# Altium integrated library Captivate Library.IntLib: 22 symbols
Pins are listed as number, name and electrical type; pins without a type are passive.

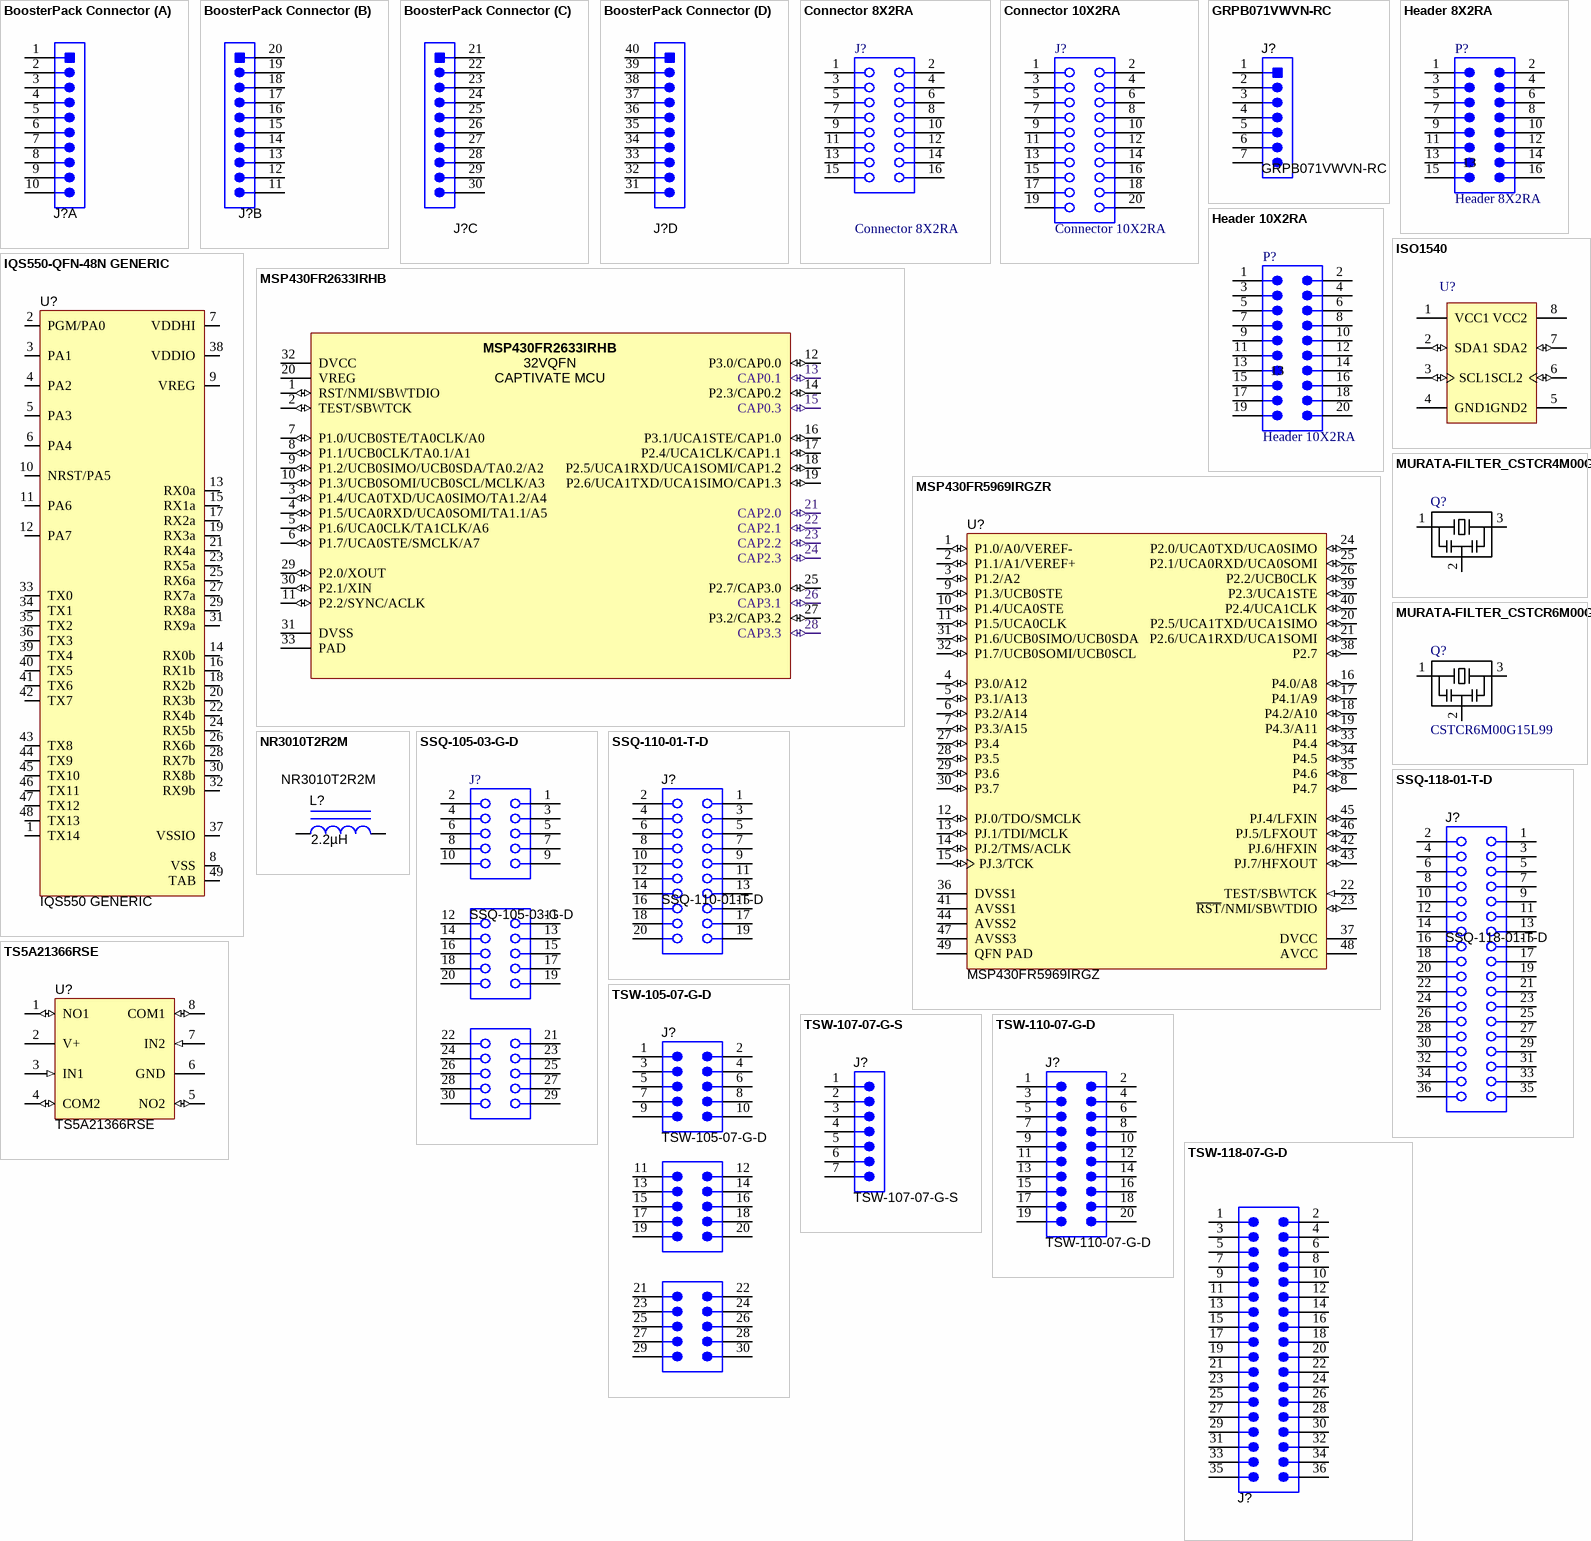
[diagram p0: symbols BoosterPack Connector to TSW-118-07-G-D]

## BoosterPack Connector
designator J?, comment TSW-110-07-G-S  (value not drawn)
Header, 100mil, 10x1, Gold, TH; Manufacturer: Samtec; SymbolCreator: a0412235; U/M: EA; SymbolVersion: 2013-12-22; PartNumber: TSW-110-07-G-S; PackageReference: 10x1 Header; ClassName: Header; CompType: Header; RoHS: Y; MountType: TH; ComponentLink1Description: Datasheet Link; ComponentLink1URL: http://samtec.com/ftppub/pdf/TSW_TH.PDF; Publisher: Texas Instruments; LatestRevisionDate: 2015-05-09; Supplier 1: Digi-Key; Supplier Part Number 1: SAM1029-10-ND
footprint LaunchPad Connector (Made from Samtec 100mil, 1x10, 230 mil above insulator)
footprint 40Pin BP (40Pin Booster Pack Connection (Top - male; Bottom - female))
part A pins: 1, 2, 3, 4, 5, 6, 7, 8, 9, 10
part B pins: 11, 12, 13, 14, 15, 16, 17, 18, 19, 20
part C pins: 21, 22, 23, 24, 25, 26, 27, 28, 29, 30
part D pins: 31, 32, 33, 34, 35, 36, 37, 38, 39, 40

## Connector 8X2RA
designator J?
Connector, Female, 8-Pin, 2 row, Right Angle; LatestRevisionDate: 17-Jul-2002; LatestRevisionNote: Re-released for DXP Platform.; Publisher: Altium Limited
footprint HDR2X8RA (Connector; Header; 8x2 Position; Right Angle)
signal-integrity model Connector
pins: 1, 2, 3, 4, 5, 6, 7, 8, 9, 10, 11, 12, 13, 14, 15, 16

## Connector 10X2RA
designator J?
Connector, Female, 10-Pin, 2 row, Right Angle; Manufacturer: Samtec; PartNumber: SSW-110-22-F-D-RA; Alternate PartNumber: SSW-110-02-F-D-RA; LatestRevisionDate: 17-Jul-2002; LatestRevisionNote: Re-released for DXP Platform.; Publisher: Altium Limited
footprint CONN2X10RA (Connector;F-Receptacle; 10x2 Position; Right Angle)
signal-integrity model Connector
pins: 1, 2, 3, 4, 5, 6, 7, 8, 9, 10, 11, 12, 13, 14, 15, 16, 17, 18, 19, 20

## GRPB071VWVN-RC
designator J?
Header, 50mil, 7x1, Gold,  TH; Manufacturer: Sullins Connector Solutions; U/M: EA; PartNumber: GRPB071VWVN-RC; PackageReference: Header, 7x1. TH; ClassName: Header; CompType: Header; RoHS: Y; MountType: TH; ComponentLink1Description: Datasheet Link; ComponentLink1URL: http://www.sullinscorp.com/drawings/71_GRPB___1VWVN-RC,_10957-C.pdf; Publisher: Texas Instruments; LatestRevisionDate: 2014-11-26; Supplier 1: Digikey; Supplier Part Number 1: S9014E-07-ND
footprint Sullins_GRPB071VWVN-RC (SULLINS)
pins: 1, 2, 3, 4, 5, 6, 7

## Header 8X2RA
designator P?
Header, Male, 8-Pin, 2 row, Shroud, Right Angle; LatestRevisionDate: 17-Jul-2002; LatestRevisionNote: Re-released for DXP Platform.; Publisher: Altium Limited
footprint HDR2X8RA (Connector; Header; 8x2 Position; Right Angle)
signal-integrity model Connector
pins: 1, 2, 3, 4, 5, 6, 7, 8, 9, 10, 11, 12, 13, 14, 15, 16

## Header 10X2RA
designator P?
Header, Male, 10-Pin, 2 row, Shround, Right Angle; Manufacturer: Samtec; PartNumber: TSSH-110-01-L-D-RA; LatestRevisionDate: 17-Jul-2002; LatestRevisionNote: Re-released for DXP Platform.; Publisher: Altium Limited; Supplier: Samtec
footprint HDR2X10RA (Connector; M-Header; 10x2 Position; Right Angle)
signal-integrity model Connector
pins: 1, 2, 3, 4, 5, 6, 7, 8, 9, 10, 11, 12, 13, 14, 15, 16, 17, 18, 19, 20

## IQS550-QFN-48N GENERIC
designator U?, comment IQS550 GENERIC
Manufacturer: Azoteq; Generated_By: GHM; Int_Part_Number: *; Manufacturer_PN: IQS550; Checked_By: *; Checked_Date: *; Generated_Date: 2012-04-18; HelpURL: \\Dentergems\pcbcad\Datasheets\Azoteq IC\Packaged\IQS550-V0.05.pdf; ComponentLink1Description: Footprint Detail; ComponentLink1URL: *; ComponentLink2Description: Application Note; ComponentLink2URL: *; ComponentLink3Description: Layout Guidelines; ComponentLink3URL: *; Wattage: *; Int_Note: *; Value: IQS550 GENERIC
footprint RGZ0048B_4.1mm Thermal Pad (QFN, 48-Leads, Body 7x7mm, Pitch 0.5mm, Thermal Pad 4.1x4.1mm, TI Recommended - Oliver Updated)
footprint U-QFN-P0.5-7X7-48 (IQS550 footprint from Azoteq)
pins: 1 TX14, 2 PGM/PA0, 3 PA1, 4 PA2, 5 PA3, 6 PA4, 7 VDDHI, 8 VSS, 9 VREG, 10 NRST/PA5, 11 PA6, 12 PA7, 13 RX0a, 14 RX0b, 15 RX1a, 16 RX1b, 17 RX2a, 18 RX2b, 19 RX3a, 20 RX3b, 21 RX4a, 22 RX4b, 23 RX5a, 24 RX5b, 25 RX6a, 26 RX6b, 27 RX7a, 28 RX7b, 29 RX8a, 30 RX8b, 31 RX9a, 32 RX9b, 33 TX0, 34 TX1, 35 TX2, 36 TX3, 37 VSSIO, 38 VDDIO, 39 TX4, 40 TX5, 41 TX6, 42 TX7, 43 TX8, 44 TX9, 45 TX10, 46 TX11, 47 TX12, 48 TX13, 49 TAB

## ISO1540
designator U?
I2C Bidirectional Isolator, 2 Channel Width, 3.0 to 12.0 V, -40 to 85 degC, 8-pin SOIC (D), Green (RoHS & no Sb/Br); PartNumber: ISO1540; Manufacturer: Texas Instruments; Alternate Manufacturer: None; Alternate PartNumber: Equivalent; VCC(Max)(V): 12; VCC(Min)(V): 3; Max Frequency(kHz): 400; Channel Width: 2; 5V Tolerant I/O: Yes; DatasheetVersion: SCPS145A; PackageVersion: revM, Jun-2011; PackageReference: D0008A; PackageDescription: 8-Pin Plastic Small Outline Integrated Circuit, 4.9 x 3.9 mm, Pitch 1.27 mm Pitch; Supplier 1: Digi-Key; Supplier Part Number 1: 296-34896-5-ND; Eco-Plan: Green (RoHS & no Sb/Br); SubFamily: I2C Bidirectional Isolator; Vcc range(V): 3.0 to 12.0; Master Side I2C Bus Capacitance Supported(pF): 400; Slave Side I2C Bus Capacitance Supported(pF): 400; Open Drain I/O Type: Yes; MountType: SMT; Code_JEDEC: MS-012AA; ComponentLink1Description: Datasheet; ComponentLink1URL: http://www.ti.com/general/docs/lit/getliterature.tsp?genericPartNumber=P82B715&fileType=pdf; ComponentLink2Description: URL Link1; ComponentLink2URL: SamplesURL:http://www.ti.com/product/iso1540#samples
footprint D0008A_L (SOIC, 8-Leads, Body 4.9x3.9mm, Pitch 1.27mm, IPC High Density)
footprint D0008A_M (SOIC, 8-Leads, Body 4.9x3.9mm, Pitch 1.27mm, IPC Low Density)
footprint D0008A_N (SOIC, 8-Leads, Body 4.9x3.9mm, Pitch 1.27mm, IPC Medium Density)
pins: 1 VCC1 (power) "Supply Voltage", 2 SDA1 (io) "Serial data bus or SDA. Connect to VCC of 12C master through a pullup resistor.", 3 SCL1 (io) "Serial clock bus or SCL. Connect to VCC of  12 C master through a pullup resistor.", 4 GND1 (power) "GROUND SIDE 1", 5 GND2 (power) "Ground", 6 SCL2 (io) "Buffered serial clock bus", 7 SDA2 (io), 8 VCC2 (power) "Supply Voltage"

## MSP430FR2633IRHB
designator U?
MSP430 Captivate Microcontroller; Manufacturer: Texas Instruments; SymbolCreator: W. Schnoor; CompType: IC; U/M: EA, IN, or GM; SymbolVersion: 10-1-2014; MountType: SMT; PartNumber: MSP430FR2633IRHB; PackageReference: RHB (32VQFN); ComponentLink1Description: Datasheet Link; Alternate PartNumber: -; Alternate Manufacturer: -
footprint RHB0032E_NV (QFN, 32-Leads, Body 5x5mm, Pitch 0.5mm, Thermal Pad 3.45x3.45mm, TI Recommended)
footprint RHB0032E (QFN, 32-Leads, Body 5x5mm, Pitch 0.5mm, Thermal Pad 3.45x3.45mm, TI Recommended)
pins: 1 RST/NMI/SBWTDIO (io), 2 TEST/SBWTCK (io), 3 P1.4/UCA0TXD/UCA0SIMO/TA1.2/A4 (io), 4 P1.5/UCA0RXD/UCA0SOMI/TA1.1/A5 (io), 5 P1.6/UCA0CLK/TA1CLK/A6 (io), 6 P1.7/UCA0STE/SMCLK/A7 (io), 7 P1.0/UCB0STE/TA0CLK/A0 (io), 8 P1.1/UCB0CLK/TA0.1/A1 (io), 9 P1.2/UCB0SIMO/UCB0SDA/TA0.2/A2 (io), 10 P1.3/UCB0SOMI/UCB0SCL/MCLK/A3 (io), 11 P2.2/SYNC/ACLK (io), 12 P3.0/CAP0.0 (io), 13 CAP0.1 (io), 14 P2.3/CAP0.2 (io), 15 CAP0.3 (io), 16 P3.1/UCA1STE/CAP1.0 (io), 17 P2.4/UCA1CLK/CAP1.1 (io), 18 P2.5/UCA1RXD/UCA1SOMI/CAP1.2 (io), 19 P2.6/UCA1TXD/UCA1SIMO/CAP1.3 (io), 20 VREG (power), 21 CAP2.0 (io), 22 CAP2.1 (io), 23 CAP2.2 (io), 24 CAP2.3 (io), 25 P2.7/CAP3.0 (io), 26 CAP3.1 (io), 27 P3.2/CAP3.2 (io), 28 CAP3.3 (io), 29 P2.0/XOUT (io), 30 P2.1/XIN (io), 31 DVSS (power), 32 DVCC (power), 33 PAD (power)
text: 32VQFN; CAPTIVATE MCU

## MSP430FR5969IRGZR
designator U?, comment MSP430FR5969IRGZ
25 MHz Mixed Signal Microcontroller with 32 KB Flash, 4096 B SRAM and 47 GPIOs, -40 to 85 degC, 48-pin QFN (RGC), Green (RoHS & no Sb/Br); Manufacturer: Texas Instruments; ADC: 10-bit SAR; ADC Channels: 8; Brown Out Reset: Yes; DMA: 3; Flash(KB): 32; Frequency(MHz): 25; GPIO: 47; Multiplier: 32x32; SRAM(B): 4096; SubFamily: 5 Series; Timers - 16-bit: 4; USB: 1; USCI_A (UART/LIN/IrDA/SPI): 2; DatasheetVersion: SLAS645G; PackageVersion: 4204101/F; PackageReference: RGZ0048A; PackageDescription: 48-Pin Plastic Flat Pack, Body 7 x 7 mm, Pitch 0.5 mm; Supplier 1: Digi-Key; Supplier 2: Digi-Key; Supplier 3: Digi-Key; Supplier 4: Newark; Supplier Part Number 4: 24T4628; Supplier 5: Mouser; Comparators: Yes; Eco-Plan: Green (RoHS & no Sb/Br); Real-Time Clock: Yes; SVS: Yes; Temp Sensor: Yes; USCI_B (I2C & SPI): 2; Watchdog: Yes; Mounting Technology: Surface Mount; Code_JEDEC: MO-220; PartNumber: MSP430FR5969IRGZ; ComponentLink1Description: Manufacturer URL; ComponentLink1URL: http://www.ti.com/; ComponentLink2Description: Datasheet; ComponentLink2URL: http://www.ti.com/general/docs/lit/getliterature.tsp?genericPartNumber=MSP430F5510&fileType=pdf; ComponentLink3Description: Package Specification; ComponentLink3URL: http://www.ti.com/lit/ml/mpqf123e/mpqf123e.pdf
footprint RGZ0048B_4.1mm Thermal Pad (QFN, 48-Leads, Body 7x7mm, Pitch 0.5mm, Thermal Pad 4.1x4.1mm, TI Recommended - Oliver Updated)
pins: 1 P1.0/A0/VEREF- (io), 2 P1.1/A1/VEREF+ (io), 3 P1.2/A2 (io), 4 P3.0/A12 (io), 5 P3.1/A13 (io), 6 P3.2/A14 (io), 7 P3.3/A15 (io) "Analog power supply", 8 P4.7 (io), 9 P1.3/UCB0STE (io), 10 P1.4/UCA0STE (io) "Analog ground supply", 11 P1.5/UCA0CLK (io) "Digital power supply", 12 PJ.0/TDO/SMCLK (io) "Digital ground supply", 13 PJ.1/TDI/MCLK (io) "Regulated core power supply output (internal use only, no external current loading)", 14 PJ.2/TMS/ACLK (io), 15 PJ.3/TCK (io), 16 P4.0/A8 (io), 17 P4.1/A9 (io), 18 P4.2/A10 (io), 19 P4.3/A11 (io), 20 P2.5/UCA1TXD/UCA1SIMO (io), 21 P2.6/UCA1RXD/UCA1SOMI (io), 22 TEST/SBWTCK (in), 23 ~{RST}/NMI/SBWTDIO (io), 24 P2.0/UCA0TXD/UCA0SIMO (io), 25 P2.1/UCA0RXD/UCA0SOMI (io), 26 P2.2/UCB0CLK (io), 27 P3.4 (io) "Digital ground supply", 28 P3.5 (io) "Digital power supply", 29 P3.6 (io), 30 P3.7 (io), 31 P1.6/UCB0SIMO/UCB0SDA (io), 32 P1.7/UCB0SOMI/UCB0SCL (io), 33 P4.4 (io), 34 P4.5 (io), 35 P4.6 (io), 36 DVSS1 (power), 37 DVCC (power) "USB PHY ground supply", 38 P2.7 (io), 39 P2.3/UCA1STE (io) "USB pullup resistor pin (open drain). The voltage level at the PUR pin is used to invoke the default USB BSL. Recommended 1-Mohm resistor to ground. See USB BSL for more information.", 40 P2.4/UCA1CLK (io), 41 AVSS1 (power) "USB LDO input (connect to USB power source)", 42 PJ.6/HFXIN (io) "USB LDO output", 43 PJ.7/HFXOUT (io) "USB regulated power (internal use only, no external current loading)", 44 AVSS2 (power) "Analog ground supply", 45 PJ.4/LFXIN (io), 46 PJ.5/LFXOUT (io), 47 AVSS3 (power), 48 AVCC (power), 49 QFN PAD (power) "Exposed QFN package pad. Connection to VSS recommended (not available on PT package devices)"

## MURATA-FILTER_CSTCR4M00G15
designator Q?
4.00MHz resonator; Supplier 1: Murata; Value Displayed: 4.00MHz; Supplier Part Number 1: CSTCR4M00G15L99
footprint CSTCR CERAMIC RESONATOR - MURATA (CSTCR-Resonator SMD footprint)
pins: 1, 2, 3

## MURATA-FILTER_CSTCR6M00G15
designator Q?, comment CSTCR6M00G15L99
6.00MHz resonator; Supplier 1: Murata; Supplier Part Number 1: CSTCR6M00G15L99; Value Displayed: 6.00MHz
footprint CSTCR CERAMIC RESONATOR - MURATA (CSTCR-Resonator SMD footprint)
pins: 1, 2, 3

## NR3010T2R2M
designator L?  ValueDisplayed: 2.2µH
Inductor, 2.2uH, 20%, 1.1A,, 0.095 ohm, SMD; Manufacturer: Taiyo Yuden; Ind_H: 2.2E-6; Imax_A: 2.2; Irms: 2.2A @ C rise; Isat: 3A @ % inductance drop; DCR_ohm: 0.042; Material: Powdered Iron; U/M: EA; SymbolVersion: 2008-07-23; CompType: Inductor; Value: 2.2uH; PartNumber: NR3010T2R2M; PackageReference: 3x3mm; Value1: 0.095 ohm; Value2: 1.1A; Technology: Shielded; MountType: SMT; Published: 2008-06-26; Publisher: Texas Instruments; LatestRevisionDate: 2013-09-06; ComponentLink1Description: Datasheet link; ComponentLink1URL: http://www.yuden.co.jp/productdata/catalog/en/wound04_e.pdf; RoHS: Y; Supplier 1: Digi-Key; Supplier Part Number 1: 587-1638-2-ND; Supplier 2: Mouser; Supplier 3: Farnell
signal-integrity model Inductor
simulation model Inductor
footprint INDUCTOR_2.2UH_SMD (Inductor, 2.2uH, 1A, 3x3mm, SMD footprint)
pins: 1, 2

## SSQ-105-03-G-D
designator J?
Connector-F, Receptacle, 100mil, 5x2 pos, LEGACY Sensor PCB; Manufacturer: Samtec; SymbolCreator: a0412235; U/M: EA; SymbolVersion: 2013-05-24; PartNumber: SSQ-105-03-G-D; CompType: Receptacle; RoHS: Y; PackageReference: SSQ-105-03-G-D; MountType: TH; ComponentLink1Description: Datasheet Link; ComponentLink1URL: http://www.samtec.com/documents/webfiles/pdf/SSQ_TH.PDF; Publisher: Texas Instruments; LatestRevisionDate: 2013-09-09; Supplier 1: Digi-Key
footprint 10PIN (3x) EDGE CONNECTOR (Male connector for use with legacy sensor PCBS)
pins: 1, 2, 3, 4, 5, 6, 7, 8, 9, 10, 11, 12, 13, 14, 15, 16, 17, 18, 19, 20, 21, 22, 23, 24, 25, 26, 27, 28, 29, 30

## SSQ-110-01-T-D
designator J?
Connector-F, Receptacle, 100mil, 10x2 pos, Use on EVM; Manufacturer: TE Connectivity; SymbolCreator: a0412235; U/M: EA; SymbolVersion: 2013-03-28; PartNumber: SSQ-110-01-T-D; CompType: Connector; RoHS: Y; PackageReference: Receptacle 10x2; MountType: TH; ComponentLink1Description: Datasheet Link; ComponentLink1URL: http://www.te.com/commerce/DocumentDelivery/DDEController?Action=srchrtrv&DocNm=534206&DocType=Customer+Drawing&DocLang=English; Publisher: Texas Instruments; LatestRevisionDate: 2013-09-09; Supplier 1: Digi-Key; Supplier Part Number 1: SAM1183-10-ND; Supplier 2: Mouser; Supplier 3: Newark
footprint 20PIN EDGE CONNECTOR (Foot print for 20 pin connector, 0.1inch centers, 0.1 inch tail length)
pins: 1, 2, 3, 4, 5, 6, 7, 8, 9, 10, 11, 12, 13, 14, 15, 16, 17, 18, 19, 20
1 alternate drawing of the same symbol

## SSQ-118-01-T-D
designator J?
Connector-F, Receptacle, 100mil, 18x2 pos, Use on EVM; Manufacturer: TE Connectivity; SymbolCreator: a0412235; U/M: EA; SymbolVersion: 2013-03-28; PartNumber: SSQ-118-01-T-D; CompType: Connector; RoHS: Y; PackageReference: Receptacle 18x2; MountType: TH; ComponentLink1Description: Datasheet Link; ComponentLink1URL: http://www.te.com/commerce/DocumentDelivery/DDEController?Action=srchrtrv&DocNm=534206&DocType=Customer+Drawing&DocLang=English; Publisher: Texas Instruments; LatestRevisionDate: 2013-09-09; Supplier 1: Digi-Key; Supplier Part Number 1: SAM1183-18-ND; Supplier 2: Mouser; Supplier 3: Newark
footprint 36PIN edge connector (Foot print for 36 pin connector, 0.1inch centers, 0.1 inch tail length)
pins: 1, 2, 3, 4, 5, 6, 7, 8, 9, 10, 11, 12, 13, 14, 15, 16, 17, 18, 19, 20, 21, 22, 23, 24, 25, 26, 27, 28, 29, 30, 31, 32, 33, 34, 35, 36
1 alternate drawing of the same symbol

## TS5A21366RSE
designator U?
0.75-Ω DUAL SPST ANALOG SWITCH WITH 1.8-V COMPATIBLE INPUT LOGIC, RSE0008A; Manufacturer: Texas Instruments; SymbolCreator: a0272918; CompType: IC; U/M: EA; SymbolVersion: 2014-12-09; PartNumber: TS5A21366RSE; PackageReference: RES008A; MountType: SMT; ComponentLink1Description: Datasheet Link; ComponentLink1URL: http://www.ti.com/lit/ds/symlink/ts5a21366.pdf; RoHS: Y; Publisher: Texas Instruments; LatestRevisionDate: 2014-12-08; Alternate Manufacturer: Texas Instruments
footprint RSE0008A (QFN, 8-Leads, Body 1.5x1.5mm, Pitch 0.5mm, TI Recommended)
pins: 1 NO1 (io), 2 V+ (power), 3 IN1 (in), 4 COM2 (io), 5 NO2 (io), 6 GND (power), 7 IN2 (in), 8 COM1 (io)

## TSW-105-07-G-D
designator J?
Header-M, (3) Union 5x2 pos, 100mil, LEGACY, Use on AZP401; Manufacturer: Samtec; SymbolCreator: a0412235; CompType: Header; U/M: EA; SymbolVersion: 2013-03-14; PartNumber: TSW-105-07-G-D; ClassName: Header; RoHS: Y; PackageReference: 5x2 Header; MountType: TH; ComponentLink1Description: Datasheet Link; ComponentLink1URL: http://samtec.com/ftppub/pdf/TSW_TH.PDF; Publisher: Texas Instruments; LatestRevisionDate: 2013-09-09; Supplier 1: Digi-Key; Supplier Part Number 1: SAM1028-05-ND
footprint 10PIN (3x) EDGE CONNECTOR - reverse (Male connector for use with legacy sensor PCBS)
pins: 1, 2, 3, 4, 5, 6, 7, 8, 9, 10, 11, 12, 13, 14, 15, 16, 17, 18, 19, 20, 21, 22, 23, 24, 25, 26, 27, 28, 29, 30

## TSW-107-07-G-S
designator J?
Header, TH, 100mil, 7x1, Gold plated, (modified silk pin #1); Manufacturer: Samtec; U/M: EA; PartNumber: TSW-107-07-G-S; ClassName: Header; CompType: Header; RoHS: Y; PackageReference: 7x1 Header; MountType: TH; ComponentLink1Description: Datasheet Link; ComponentLink1URL: http://samtec.com/ftppub/pdf/TSW_TH.PDF; Publisher: Texas Instruments; LatestRevisionDate: 2013-09-09; Supplier 1: Digi-Key; Supplier Part Number 1: SAM1029-07-ND
footprint TSW-107-07-G-S (Samtec 100mil, 1x7, 230 mil above insulator (modified silk - moved #1 dot))
pins: 1, 2, 3, 4, 5, 6, 7

## TSW-110-07-G-D
designator J?
Header-M, 100mil, 10x2 pos, 230 mil above insulator, Use on Sensor PCB; Manufacturer: Samtec; SymbolCreator: a0412235; CompType: Header; U/M: EA; SymbolVersion: 2013-03-20; PartNumber: TSW-110-07-G-D; ClassName: Header; RoHS: Y; PackageReference: 10x2 Header; MountType: TH; ComponentLink1Description: Datasheet Link; ComponentLink1URL: http://samtec.com/ftppub/pdf/TSW_TH.PDF; Publisher: Texas Instruments; LatestRevisionDate: 2013-09-09; Supplier 1: Digi-Key; Supplier Part Number 1: SAM1028-10-ND
footprint 20PIN EDGE CONNECTOR - reverse (Foot print for 20 pin connector, 0.1inch centers, 0.1 inch tail length)
footprint TSW-110-07-G-D (Samtec 100mil, 2x10, 230 mil above insulator)
pins: 1, 2, 3, 4, 5, 6, 7, 8, 9, 10, 11, 12, 13, 14, 15, 16, 17, 18, 19, 20

## TSW-118-07-G-D
designator J?
Header-M, 100mil, 18x2 pos,  230 mil above insulator, Use On Sensor PCB; Manufacturer: Samtec; CompType: Header; U/M: EA; PartNumber: TSW-118-07-G-D; ClassName: Header; RoHS: Y; PackageReference: 18x2 Header; MountType: TH; ComponentLink1Description: Datasheet Link; ComponentLink1URL: http://samtec.com/ftppub/pdf/TSW_TH.PDF; Publisher: Texas Instruments; LatestRevisionDate: 2013-09-09; Supplier 1: Digi-Key; Supplier Part Number 1: SAM1028-18-ND
footprint 36PIN edge connector - reverse (Foot print for 36 pin connector, 0.1inch centers, 0.1 inch tail length)
footprint TSW-118-07-G-D (Samtec 100mil, 2x18, 230 mil above insulator)
pins: 1, 2, 3, 4, 5, 6, 7, 8, 9, 10, 11, 12, 13, 14, 15, 16, 17, 18, 19, 20, 21, 22, 23, 24, 25, 26, 27, 28, 29, 30, 31, 32, 33, 34, 35, 36

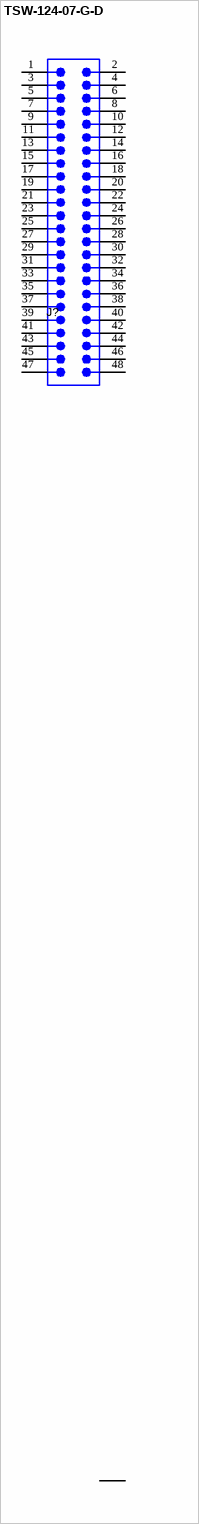
[diagram p1: symbol TSW-124-07-G-D]

## TSW-124-07-G-D
designator J?
Header-M, 100mil, 24x2 pos,  230 mil above insulator, Use On Sensor PCB; Manufacturer: Samtec; CompType: Header; U/M: EA; PartNumber: TSW-124-07-G-D; ClassName: Header; RoHS: Y; PackageReference: 24x2 Header; MountType: TH; ComponentLink1Description: Datasheet Link; ComponentLink1URL: http://samtec.com/ftppub/pdf/TSW_TH.PDF; Publisher: Texas Instruments; LatestRevisionDate: 2013-09-09; Supplier 1: Digi-Key; Supplier Part Number 1: SAM1028-24-ND
footprint 48PIN edge connector (Foot print for 48 pin connector, 0.1inch centers, 0.1 inch tail length)
footprint 48PIN edge connector - reverse (Foot print for 48 pin connector, 0.1inch centers, 0.1 inch tail length)
pins: 1, 2, 3, 4, 5, 6, 7, 8, 9, 10, 11, 12, 13, 14, 15, 16, 17, 18, 19, 20, 21, 22, 23, 24, 25, 26, 27, 28, 29, 30, 31, 32, 33, 34, 35, 36, 37, 38, 39, 40, 41, 42, 43, 44, 45, 46, 47, 48, 49